# Altium footprint library SON.PcbLib: 6 footprints
Each footprint in its own frame and in the unit in brackets; x right, y up, seen from the top. Pads: shape width x height; smd on the part's side, far side on the other; paste and mask are expansions set on the pad; w line width, h text height; cw(c..) or ccw(c..) is an arc to the next point about the centre after c.
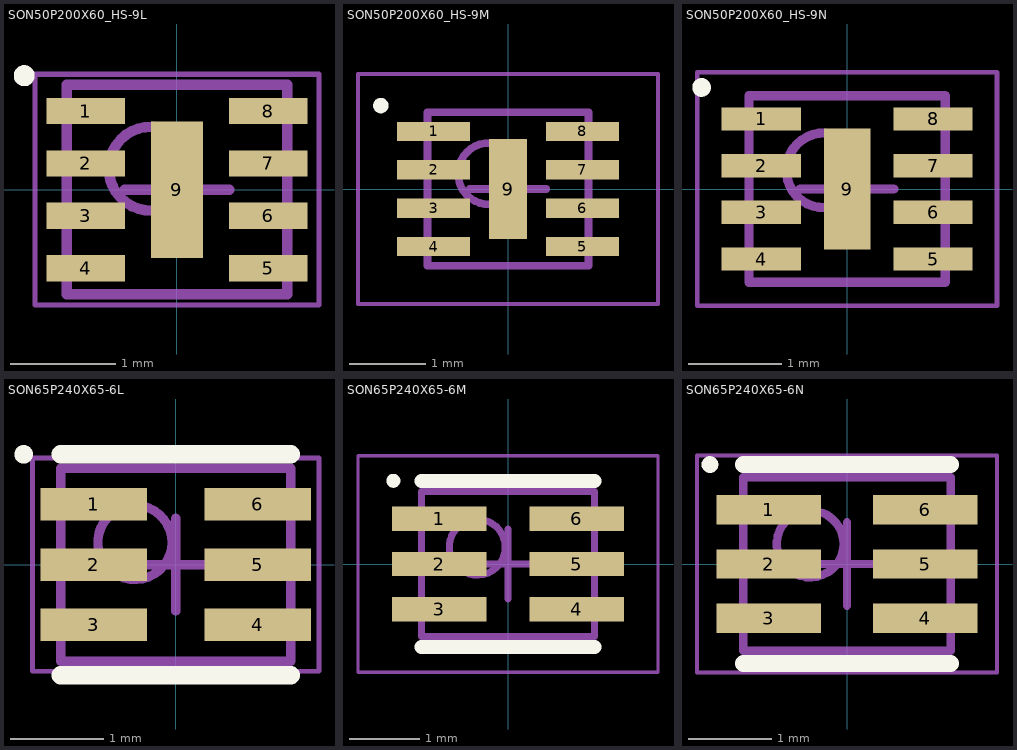
[diagram p0: the footprints below, top view; thin cyan lines are the x and y axes]

## SON50P200X60_HS-9L [mm] "SON, 8-Leads, Body 2.10x2.00mm, Pitch 0.50mm, Thermal Pad 1.30x0.50mm, IPC High Density"
height 0.6
pads (9):
  rect 0.75x0.25 smd: 1(-0.87,0.75) 2(-0.87,0.25) 3(-0.87,-0.25) 4(-0.87,-0.75) 5(0.87,-0.75) 6(0.87,-0.25) 7(0.87,0.25) 8(0.87,0.75)
  rect 0.5x1.3 smd: 9(0,0)
Top Overlay:
  circle w0.1: c-1.457,1.087 r0.05
Mechanical 13:
  circle w0.1: c-0.25,0.2 r0.4
  lines w0.1: -1.05,-1 1.05,-1 1.05,1 -1.05,1 -1.05,-1
Mechanical 15:
  lines w0.05: -1.355,-1.1 1.355,-1.1 1.355,1.1 -1.355,1.1 -1.355,-1.1
  lines w0.1: -0.5,0 0.5,0 ; 0,-0.5 0,0.5
3D body "SON50P200X60_HS-9L.step": height 0.6, standoff 0, extent -1.05,-1 1.05,1

## SON50P200X60_HS-9M [mm] "SON, 8-Leads, Body 2.10x2.00mm, Pitch 0.50mm, Thermal Pad 1.30x0.50mm, IPC Low Density"
height 0.6
pads (9):
  rect 0.95x0.25 smd: 1(-0.97,0.75) 2(-0.97,0.25) 3(-0.97,-0.25) 4(-0.97,-0.75) 5(0.97,-0.75) 6(0.97,-0.25) 7(0.97,0.25) 8(0.97,0.75)
  rect 0.5x1.3 smd: 9(0,0)
Top Overlay:
  circle w0.1: c-1.657,1.087 r0.05
Mechanical 13:
  circle w0.1: c-0.25,0.2 r0.4
  lines w0.1: -1.05,-1 1.05,-1 1.05,1 -1.05,1 -1.05,-1
Mechanical 15:
  lines w0.05: -1.955,-1.5 1.955,-1.5 1.955,1.5 -1.955,1.5 -1.955,-1.5
  lines w0.1: -0.5,0 0.5,0 ; 0,-0.5 0,0.5
3D body "SON50P200X60_HS-9M.step": height 0.6, standoff 0, extent -1.05,-1 1.05,1

## SON50P200X60_HS-9N [mm] "SON, 8-Leads, Body 2.10x2.00mm, Pitch 0.50mm, Thermal Pad 1.30x0.50mm, IPC Medium Density"
height 0.6
pads (9):
  rect 0.85x0.25 smd: 1(-0.92,0.75) 2(-0.92,0.25) 3(-0.92,-0.25) 4(-0.92,-0.75) 5(0.92,-0.75) 6(0.92,-0.25) 7(0.92,0.25) 8(0.92,0.75)
  rect 0.5x1.3 smd: 9(0,0)
Top Overlay:
  circle w0.1: c-1.557,1.087 r0.05
Mechanical 13:
  circle w0.1: c-0.25,0.2 r0.4
  lines w0.1: -1.05,-1 1.05,-1 1.05,1 -1.05,1 -1.05,-1
Mechanical 15:
  lines w0.05: -1.605,-1.25 1.605,-1.25 1.605,1.25 -1.605,1.25 -1.605,-1.25
  lines w0.1: -0.5,0 0.5,0 ; 0,-0.5 0,0.5
3D body "SON50P200X60_HS-9N.step": height 0.6, standoff 0, extent -1.05,-1 1.05,1

## SON65P240X65-6L [mm] "SON, 6-Leads, Body 2.00x2.40mm, Pitch 0.65mm, IPC High Density"
height 0.65
pads (6):
  rect 1.15x0.35 smd: 1(-0.885,0.65) 2(-0.885,0) 3(-0.885,-0.65) 4(0.885,-0.65) 5(0.885,0) 6(0.885,0.65)
Top Overlay:
  circle w0.1: c-1.64,1.19 r0.05
  lines w0.2: -1.24,-1.19 1.24,-1.19 ; -1.24,1.19 1.24,1.19
Mechanical 13:
  circle w0.1: c-0.44,0.24 r0.4
  lines w0.1: -1.24,-1.04 -1.24,1.04 1.24,1.04 1.24,-1.04 -1.24,-1.04
Mechanical 15:
  lines w0.05: -1.545,-1.15 -1.545,1.15 1.545,1.15 1.545,-1.15 -1.545,-1.15
  lines w0.1: -0.5,0 0.5,0 ; 0,-0.5 0,0.5
3D body "SON65P240X65-6L.step": height 0.65, standoff 0.1, extent -1.24,-1.04 1.24,1.04

## SON65P240X65-6M [mm] "SON, 6-Leads, Body 2.00x2.40mm, Pitch 0.65mm, IPC Low Density"
height 0.65
pads (6):
  rect 1.35x0.35 smd: 1(-0.985,0.65) 2(-0.985,0) 3(-0.985,-0.65) 4(0.985,-0.65) 5(0.985,0) 6(0.985,0.65)
Top Overlay:
  circle w0.1: c-1.64,1.19 r0.05
  lines w0.2: -1.24,-1.19 1.24,-1.19 ; -1.24,1.19 1.24,1.19
Mechanical 13:
  circle w0.1: c-0.44,0.24 r0.4
  lines w0.1: -1.24,-1.04 -1.24,1.04 1.24,1.04 1.24,-1.04 -1.24,-1.04
Mechanical 15:
  lines w0.05: -2.145,-1.55 -2.145,1.55 2.145,1.55 2.145,-1.55 -2.145,-1.55
  lines w0.1: -0.5,0 0.5,0 ; 0,-0.5 0,0.5
3D body "SON65P240X65-6M.step": height 0.65, standoff 0.1, extent -1.24,-1.04 1.24,1.04

## SON65P240X65-6N [mm] "SON, 6-Leads, Body 2.00x2.40mm, Pitch 0.65mm, IPC Medium Density"
height 0.65
pads (6):
  rect 1.25x0.35 smd: 1(-0.935,0.65) 2(-0.935,0) 3(-0.935,-0.65) 4(0.935,-0.65) 5(0.935,0) 6(0.935,0.65)
Top Overlay:
  circle w0.1: c-1.64,1.19 r0.05
  lines w0.2: -1.24,-1.19 1.24,-1.19 ; -1.24,1.19 1.24,1.19
Mechanical 13:
  circle w0.1: c-0.44,0.24 r0.4
  lines w0.1: -1.24,-1.04 1.24,-1.04 1.24,1.04 -1.24,1.04 -1.24,-1.04
Mechanical 15:
  lines w0.05: -1.795,-1.3 1.795,-1.3 1.795,1.3 -1.795,1.3 -1.795,-1.3
  lines w0.1: -0.5,0 0.5,0 ; 0,-0.5 0,0.5
3D body "SON65P240X65-6N.step": height 0.65, standoff 0.1, extent -1.24,-1.04 1.24,1.04